# EAGLE library part XH-15 (library con-jst)
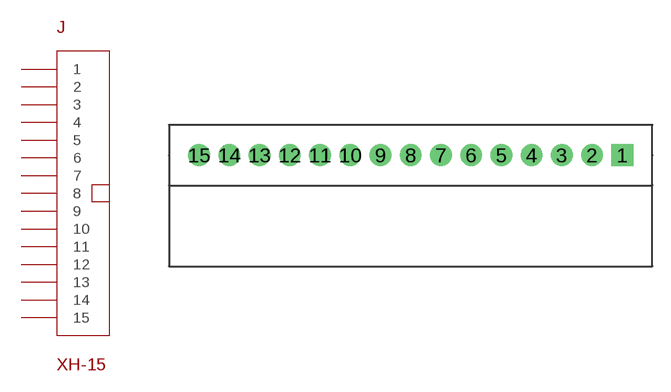
[diagram p23: symbol with the pads of XH-15; footprint XH-15]

Designator prefix J

## XH-15  [XH-15]
1  1
2  2
3  3
4  4
5  5
6  6
7  7
8  8
9  9
10  10
11  11
12  12
13  13
14  14
15  15

## Footprint XH-15 (pad centres in mm)
drill 1.1 pad 1.8 square: 1 35,0
drill 1.1 pad 1.8: 2 32.5,0; 3 30,0; 4 27.5,0; 5 25,0; 6 22.5,0; 7 20,0; 8 17.5,0; 9 15,0; 10 12.5,0; 11 10,0; 12 7.5,0; 13 5,0; 14 2.5,0; 15 0,0